# EAGLE library part IR2110 (library IR2110)
High and Low Side Driver, All High Voltage Pins On One Side, Separate Logic and Power Ground, Shut-Down
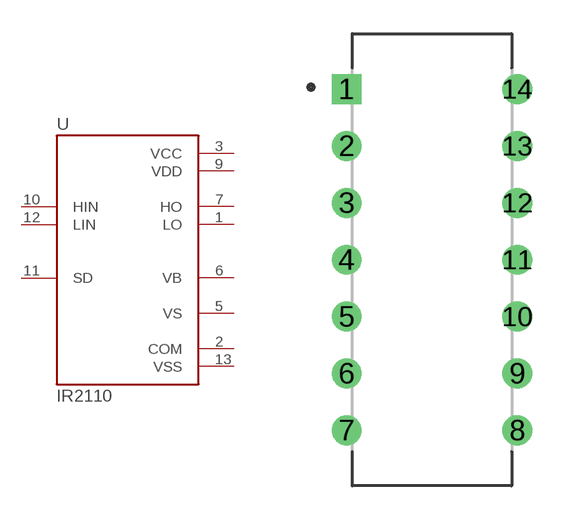
[diagram p0: symbol with the pads of DIP762W45P254L2019H533Q14; footprint DIP762W45P254L2019H533Q14]

Designator prefix U

## IR2110 (Availability: Unavailable; Description: Half-Bridge Gate Driver IC Non-Inverting 14-DIP; MF: Infineon; MP: IR2110; Package: DIP-14 Infineon; Price: None)  [DIP762W45P254L2019H533Q14]
1  LO  out
2  COM  pwr
3  VCC  pwr
5  VS  pas
6  VB  pas
7  HO  out
9  VDD  pwr
10  HIN  in
11  SD  in
12  LIN  in
13  VSS  pwr

## Footprint DIP762W45P254L2019H533Q14 (pad centres in mm)
drill 0.83 pad 1.25 square: 1 -3.81,7.62
drill 0.83 pad 1.25: 2 -3.81,5.08; 3 -3.81,2.54; 4 -3.81,0; 5 -3.81,-2.54; 6 -3.81,-5.08; 7 -3.81,-7.62; 8 3.81,-7.62; 9 3.81,-5.08; 10 3.81,-2.54; 11 3.81,0; 12 3.81,2.54; 13 3.81,5.08; 14 3.81,7.62